# EAGLE library part CONN1.5_12 (library mastrogippo)
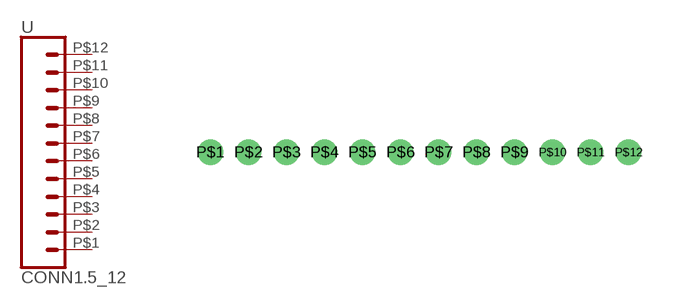
[diagram p41: symbol with the pads of CONN_1.5MM; footprint CONN_1.5MM]

Designator prefix -

## CONN1.5_12  [CONN_1.5MM]
P$1  1  pas
P$2  2  pas
P$3  3  pas
P$4  4  pas
P$5  5  pas
P$6  6  pas
P$7  7  pas
P$8  8  pas
P$9  9  pas
P$10  10  pas
P$11  11  pas
P$12  12  pas

## Footprint CONN_1.5MM (pad centres in mm)
drill 0.5: P$1 0,0; P$2 1.5,0; P$3 3,0; P$4 4.5,0; P$5 6,0; P$6 7.5,0; P$7 9,0; P$8 10.5,0; P$9 12,0; P$10 13.5,0; P$11 15,0; P$12 16.5,0